# Altium schematic symbol library LEDs.SchLib: 14 symbols
Pins are listed as number, name and electrical type; pins without a type are passive.

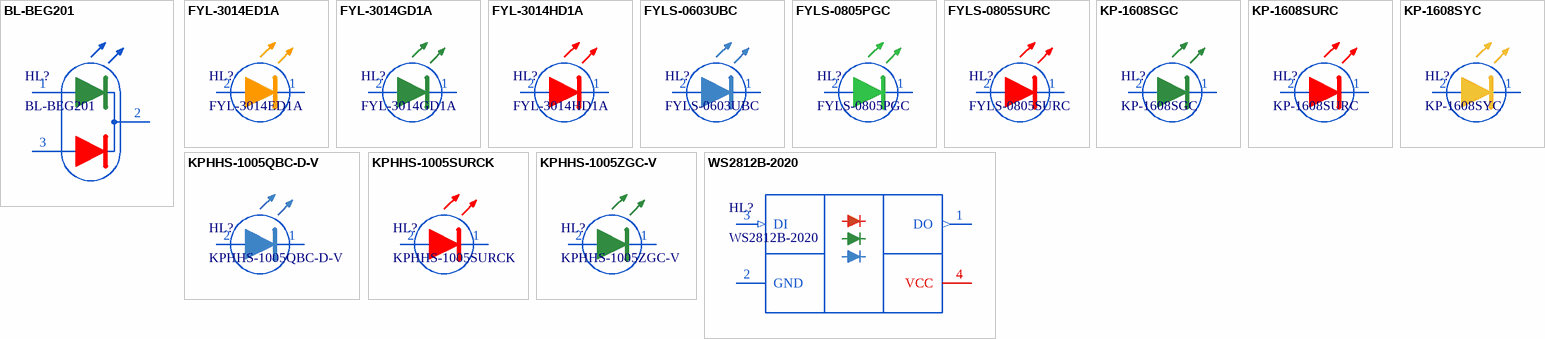
[diagram p0: symbols BL-BEG201 to WS2812B-2020]

## BL-BEG201
designator HL?
3mm bi-color led (green 568 nm, red 635 nm); Manufacturer: Bright-Led; Color: Green, Red; PartNumber: BL-BEG201; ItemType: Led; ItemSubType: 3mm bi-color; Package: 3mm; Mounting: THT
footprint BL-BEG201 (3mm Bicolor LED)
pins: 1 AG, 2 C, 3 AR

## FYL-3014ED1A
designator HL?
3mm Orange Led; Manufacturer: Foryard; Color: Orange 623 nm; Package: 3mm; PartNumber: FYL-3014ED1A; ItemType: Led; ItemSubType: 3mm; Mounting: THT
footprint LED_3MM_ORANGE_P2.54MM (3mm Standard Orange LED)
pins: 1 C, 2 A

## FYL-3014GD1A
designator HL?
3mm Green Led; Manufacturer: Foryard; Color: Green 570 nm; Package: 3mm; PartNumber: FYL-3014GD1A; ItemType: Led; ItemSubType: 3mm; Mounting: THT
footprint LED_3MM_GREEN_P2.54MM (3mm Standard Green LED)
pins: 1 C, 2 A

## FYL-3014HD1A
designator HL?
3mm Red Led; Manufacturer: Foryard; Color: Red 660 nm; Package: 3mm; PartNumber: FYL-3014HD1A; ItemType: Led; ItemSubType: 3mm; Mounting: THT
footprint LED_3MM_RED_P2.54MM (3mm Standard Red LED)
pins: 1 C, 2 A

## FYLS-0603UBC
designator HL?
Blue led (package case 0603); Manufacturer: Foryard; ItemSubType: 0603; Package: 0603; PartNumber: FYLS-0603UBC; Color: Blue; ItemType: Led; Mounting: SMD
footprint LED0603B (LED 0603 Blue)
pins: 1 C, 2 A

## FYLS-0805PGC
designator HL?
Purea green led (package case 0805); Manufacturer: Foryard; ItemSubType: 0805; Package: 0805; PartNumber: FYLS-0805PGC; Color: Purea Green; ItemType: Led; Mounting: SMD
footprint LED0805G (LED 0805 Green)
pins: 1 C, 2 A

## FYLS-0805SURC
designator HL?
Ultra red led (package case 0805); Manufacturer: Foryard; ItemSubType: 0805; Package: 0805; PartNumber: FYLS-0805SURC; Color: Ultra Red; ItemType: Led; Mounting: SMD
footprint LED0805R (LED 0805 Red)
pins: 1 C, 2 A

## KP-1608SGC
designator HL?
Super bright green led (package case 0603); Manufacturer: Kingbright; AltManufacturer1: Foryard; ItemSubType: 0603; Alternative1: FYLS-0603PGC; Package: 0603; PartNumber: KP-1608SGC; Color: Super bright green; ItemType: Led; Mounting: SMD
footprint LED0603G (LED 0603 Green)
pins: 1 C, 2 A

## KP-1608SURC
designator HL?
Hyper red led (package case 0603); Manufacturer: Kingbright; AltManufacturer1: Foryard; ItemSubType: 0603; Alternative1: FYLS-0603SURC; Package: 0603; PartNumber: KP-1608SURC; Color: Hyper red; ItemType: Led; Mounting: SMD
footprint LED0603R (LED 0603 Red)
pins: 1 C, 2 A

## KP-1608SYC
designator HL?
Super bright yellow led (package case 0603); Manufacturer: Kingbright; ItemSubType: 0603; Package: 0603; PartNumber: KP-1608SYC; Color: Super bright yellow; ItemType: Led; Mounting: SMD
footprint LED0603Y (LED 0603 Yellow)
pins: 1 C, 2 A

## KPHHS-1005QBC-D-V
designator HL?
Blue led (package case 0402); Manufacturer: Kingbright; ItemSubType: 0402; Package: 0402; PartNumber: KPHHS-1005QBC-D-V; Color: Blue; ItemType: Led; Mounting: SMD
footprint LED0402B (LED 0402 Blue)
pins: 1 C, 2 A

## KPHHS-1005SURCK
designator HL?
Hyper red led (package case 0402); Manufacturer: Kingbright; ItemSubType: 0402; Package: 0402; PartNumber: KPHHS-1005SURCK; Color: Hyper red; ItemType: Led; Mounting: SMD
footprint LED0402R (LED 0402 Red)
pins: 1 C, 2 A

## KPHHS-1005ZGC-V
designator HL?
Super bright green led (package case 0402); Manufacturer: Kingbright; ItemSubType: 0402; Package: 0402; PartNumber: KPHHS-1005ZGC-V; Color: Super bright green; ItemType: Led; Mounting: SMD
footprint LED0402G (LED 0402 Green 525nm)
pins: 1 C, 2 A

## WS2812B-2020
designator HL?
Intelligent control LED integrated light source; Manufacturer: WorldSemi; Color: RGB; Package: 2020; PartNumber: WS2812B-2020; ItemType: Led; ItemSubType: RGB; Mounting: SMD
footprint WS2812B-2020
pins: 1 DO (out), 2 GND, 3 DI (in), 4 VCC